# Altium footprint library TE_1217861-1.PcbLib: 1 footprints
Each footprint in its own frame and in the unit in brackets; x right, y up, seen from the top. Pads: shape width x height; smd on the part's side, far side on the other; paste and mask are expansions set on the pad; w line width, h text height; cw(c..) or ccw(c..) is an arc to the next point about the centre after c.
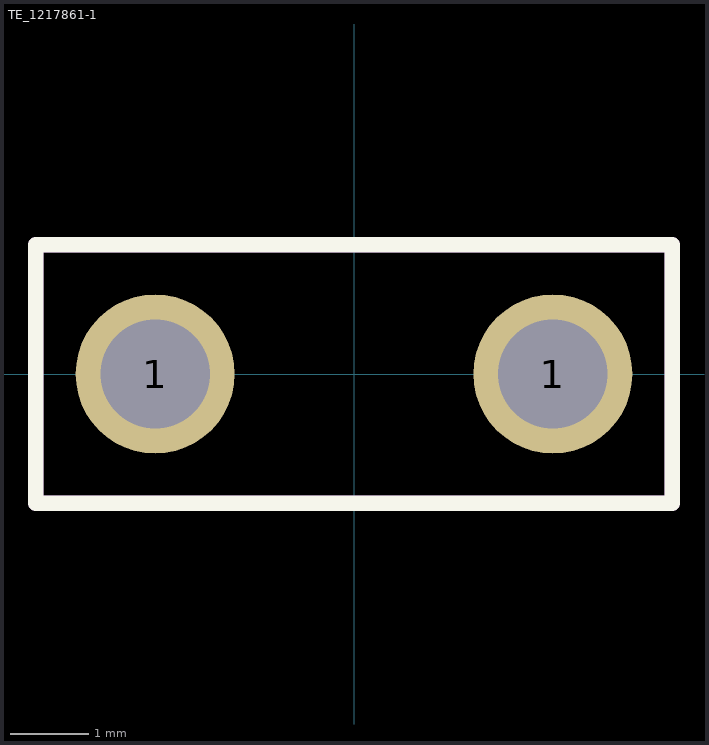
[diagram p0: the footprint, top view; thin cyan lines are the x and y axes]

## TE_1217861-1 [mil] "CONN QC TAB 0.250 SOLDER"
pads (2):
  round 80 hole 55: 1(-100,0) 1(100,0)
Top Overlay:
  lines w7.87: -160,-65 160,-65 160,65 -160,65 -160,-65
Mechanical 15:
  lines w7.87: -160,-65 -160,65 160,65 160,-65 -160,-65
3D body: height 402, standoff -150, extent -155.99,-60.74 156.01,60.76